# Altium footprint library DE-180824.PcbLib: 128 footprints (part 2 of 8)
Each footprint in its own frame and in the unit in brackets; x right, y up, seen from the top. Pads: shape width x height; smd on the part's side, far side on the other; paste and mask are expansions set on the pad; w line width, h text height; cw(c..) or ccw(c..) is an arc to the next point about the centre after c.
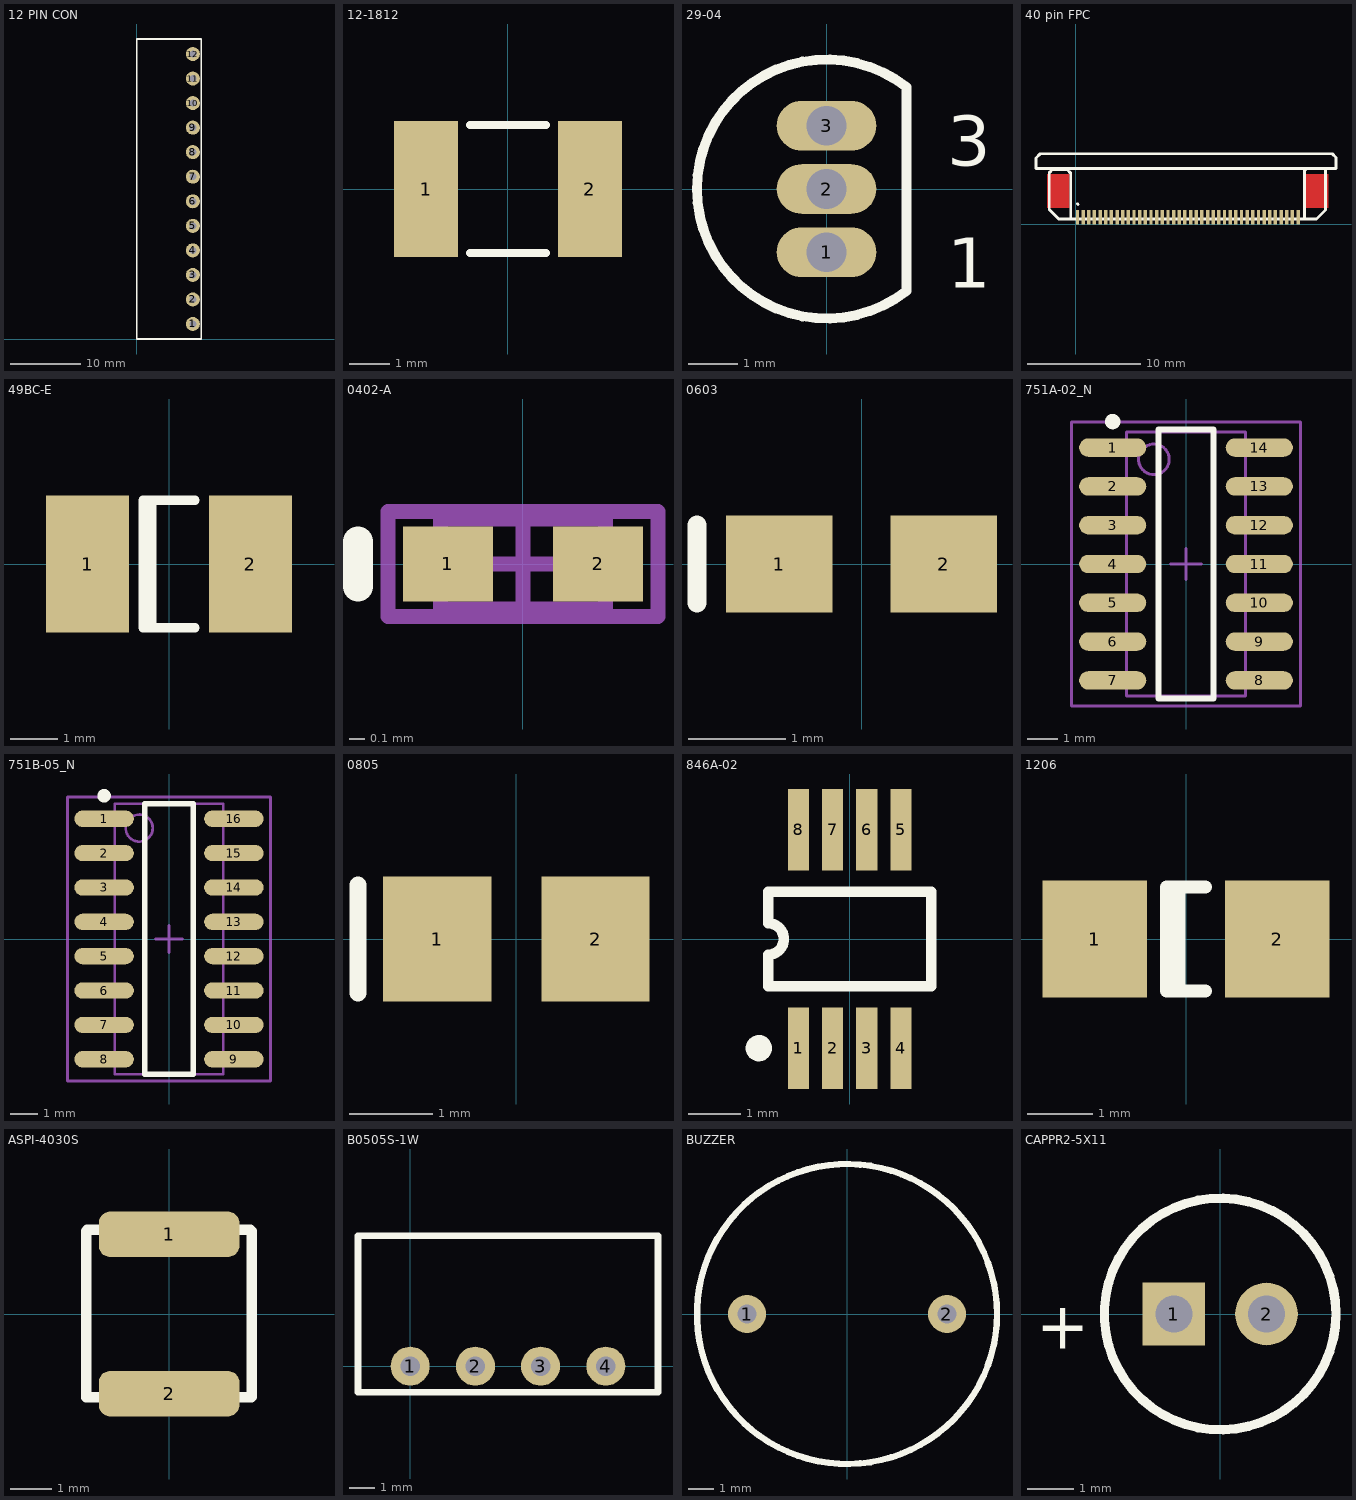
[diagram p1: the footprints below, top view; thin cyan lines are the x and y axes]

## 12 PIN CON [mm] "12 Pin Pluggable PCB Connector"
height 7.25
pads (12):
  round 2 hole 1: 1(8,2.15) 2(8,5.65) 3(8,9.15) 4(8,12.65) 5(8,16.15) 6(8,19.65) 7(8,23.15) 8(8,26.65) 9(8,30.15) 10(8,33.65) 11(8,37.15) 12(8,40.65)
Top Overlay:
  lines w0.254: 0,0 9.2,0 9.2,42.8 0,42.8 0,0
3D body: height 7.25, standoff 0, extent 0,0 9.271,42.799

## 12-1812 [mm] "Chip Resistor; Body 4.5 x 3.2 mm (LxW typ)"
height 0.7
pads (2):
  rect 1.6x3.4 smd: 1(-2.05,0) 2(2.05,0)
Top Overlay:
  lines w0.2: -0.95,-1.6 0.95,-1.6 ; -0.95,1.6 0.95,1.6

## 29-04 [mm] "TO, Flat Index; 3 In-Line, Axial Leads; Body Dia. 4.8mm; Leads 0.48 x 0.5 mm (max)"
height 5.33
pads (3):
  oval 2x1 hole 0.8: 1(0,-1.27) 2(0,0) 3(0,1.27)
Top Overlay:
  lines w0.2: 1.601,-2.049 cw(c0,0) 1.601,2.049 ; 1.6,-1.99 1.6,1.99
  text "3" at 2.421,0.467 h1
  text "1" at 2.421,-1.979 h1

## 40 pin FPC [mm]
pads (40):
  rect 0.3x1.25 smd: 1(0.16,0.635) 2(0.66,0.635) 3(1.16,0.635) 4(1.66,0.635) 5(2.16,0.635) 6(2.66,0.635) 7(3.16,0.635) 8(3.66,0.635) 9(4.16,0.635) 10(4.66,0.635) 11(5.16,0.635) 12(5.66,0.635) 13(6.16,0.635) 14(6.66,0.635) 15(7.16,0.635) 16(7.66,0.635) 17(8.16,0.635) 18(8.66,0.635) 19(9.16,0.635) 20(9.66,0.635) 21(10.16,0.635) 22(10.66,0.635) 23(11.16,0.635) 24(11.66,0.635) 25(12.16,0.635) 26(12.66,0.635) 27(13.16,0.635) 28(13.66,0.635) 29(14.16,0.635) 30(14.66,0.635) 31(15.16,0.635) 32(15.66,0.635) 33(16.16,0.635) 34(16.66,0.635) 35(17.16,0.635) 36(17.66,0.635) 37(18.16,0.635) 38(18.66,0.635) 39(19.16,0.635) 40(19.66,0.635)
Top Layer:
  rectangle: -2.54,1.45 -0.54,4.45
  rectangle: 20.352,1.45 22.352,4.45
Top Overlay:
  lines w0.254: -0.432,0.483 -0.432,4.521 -0.762,4.851 -2.057,4.851 -2.337,4.572 -2.337,1.321 -1.499,0.483 21.285,0.483 22.073,1.27 22.073,4.801 21.92,4.953 20.422,4.953 20.218,4.75 20.218,0.483 ; 0.152,1.829 0.152,1.803 0.203,1.753 ; -3.505,4.953 23.012,4.953 23.012,5.918 22.682,6.248 -3.124,6.248 -3.505,5.867 -3.505,4.953

## 49BC-E [mm] "Chip Capacitor; Body 3.81 x 2.54 mm (LxW typ)"
height 1.66
pads (2):
  rect 1.75x2.9 smd: 1(-1.725,0) 2(1.725,0)
Top Overlay:
  lines w0.2: -0.36,-1.35 -0.36,1.35 ; 0.55,-1.35 -0.55,-1.35 -0.55,1.35 0.55,1.35

## 0402-A [mm] "Chip Inductor, Body 1.0x0.5mm, IPC High Density"
height 0.55
pads (2):
  rect 0.6x0.5 smd: 1(-0.5,0) 2(0.5,0)
Top Overlay:
  lines w0.2: -1.1,-0.15 -1.1,0.15
Mechanical 13:
  lines w0.1: -0.55,-0.3 -0.55,0.3 0.55,0.3 0.55,-0.3 -0.55,-0.3
Mechanical 15:
  lines w0.1: -0.3,0 0.3,0 ; 0,-0.3 0,0.3 ; -0.9,-0.35 -0.9,0.35 0.9,0.35 0.9,-0.35 -0.9,-0.35
3D body: height 0.55, standoff 0, extent -0.55,-0.3 0.55,0.3

## 0603 [mm] "Chip Capacitor; Body 1.6 x 0.8 mm (LxW typ)"
height 0.87
pads (2):
  rect 1.1x1 smd: 1(-0.85,0) 2(0.85,0)
Top Overlay:
  lines w0.2: -1.7,-0.4 -1.7,0.4

## 751A-02_N [mm] "SOIC, 14-Leads, Body 8.7x3.9mm, Pitch 1.27mm, IPC Medium Density"
height 1.75
pads (14):
  oval 2.2x0.6 smd: 1(-2.4,3.81) 2(-2.4,2.54) 3(-2.4,1.27) 4(-2.4,0) 5(-2.4,-1.27) 6(-2.4,-2.54) 7(-2.4,-3.81) 8(2.4,-3.81) 9(2.4,-2.54) 10(2.4,-1.27) 11(2.4,0) 12(2.4,1.27) 13(2.4,2.54) 14(2.4,3.81)
Top Overlay:
  circle w0.25: c-2.4,4.66 r0.125
  lines w0.2: -0.9,-4.4 0.9,-4.4 0.9,4.4 -0.9,4.4 -0.9,-4.4
Mechanical 13:
  circle w0.1: c-1.05,3.425 r0.5
  lines w0.1: -1.95,-4.325 1.95,-4.325 1.95,4.325 -1.95,4.325 -1.95,-4.325
Mechanical 15:
  lines w0.1: -0.5,0 0.5,0 ; 0,-0.5 0,0.5 ; -3.75,-4.65 3.75,-4.65 3.75,4.65 -3.75,4.65 -3.75,-4.65
3D body: height 1.75, standoff 0, extent -1.95,-4.325 1.95,4.325

## 751B-05_N [mm] "SOIC, 16-Leads, Body 9.9x3.9mm, Pitch 1.27mm, IPC Medium Density"
height 1.75
pads (16):
  oval 2.2x0.6 smd: 1(-2.4,4.445) 2(-2.4,3.175) 3(-2.4,1.905) 4(-2.4,0.635) 5(-2.4,-0.635) 6(-2.4,-1.905) 7(-2.4,-3.175) 8(-2.4,-4.445) 9(2.4,-4.445) 10(2.4,-3.175) 11(2.4,-1.905) 12(2.4,-0.635) 13(2.4,0.635) 14(2.4,1.905) 15(2.4,3.175) 16(2.4,4.445)
Top Overlay:
  circle w0.25: c-2.4,5.295 r0.125
  lines w0.2: -0.9,-5 -0.9,5 0.9,5 0.9,-5 -0.9,-5
Mechanical 13:
  circle w0.1: c-1.1,4.1 r0.5
  lines w0.1: -2,-5 -2,5 2,5 2,-5 -2,-5
Mechanical 15:
  lines w0.1: -0.5,0 0.5,0 ; 0,-0.5 0,0.5 ; -3.75,-5.25 -3.75,5.25 3.75,5.25 3.75,-5.25 -3.75,-5.25
3D body: height 1.75, standoff 0, extent -2,-5 2,5

## 0805 [mm] "Chip Capacitor; Body 2.0 x 1.2 mm (LxW typ)"
height 1.3
pads (2):
  rect 1.3x1.5 smd: 1(-0.95,0) 2(0.95,0)
Top Overlay:
  lines w0.2: -1.9,-0.65 -1.9,0.65

## 846A-02 [mm] "Shrink Small Outline; 8 Leads; Body Width 3 mm; Pitch 0.65 mm"
height 1.1
pads (8):
  rect 0.4x1.55 smd: 1(-0.975,-2.075) 2(-0.325,-2.075) 3(0.325,-2.075) 4(0.975,-2.075) 5(0.975,2.075) 6(0.325,2.075) 7(-0.325,2.075) 8(-0.975,2.075)
Top Overlay:
  circle w0.25: c-1.725,-2.075 r0.125
  lines w0.2: -1.55,-0.9 -1.55,-0.3 ccw(c-1.55,0) -1.55,0.3 -1.55,0.9 1.55,0.9 1.55,-0.9 -1.55,-0.9

## 1206 [mm] "Chip Capacitor; Body 3.2 x 1.6 mm (LxW typ)"
height 1.5
pads (2):
  rect 1.6x1.8 smd: 1(-1.4,0) 2(1.4,0)
Top Overlay:
  lines w0.2: -0.11,-0.8 -0.11,0.8 ; 0.3,-0.8 -0.3,-0.8 -0.3,0.8 0.3,0.8

## ASPI-4030S [mm] "SMD Inductor ASPI-4030S"
height 3
pads (2):
  rrect50% 3.4x1.1 smd: 1(0,1.925) 2(0,-1.925)
Top Overlay:
  lines w0.254: -2.007,-2.007 1.981,-2.007 ; -2,-2 -2,2 ; -1.981,2.032 1.956,2.032 ; 2,-2 2,2
3D body: height 3, standoff 0, extent -2.108,-2.134 2.108,2.159

## B0505S-1W [mil] "Isolated DC DC converter"
height 393.7
pads (4):
  round 60 hole 30: 1(0,0) 2(100,0) 3(200,0) 4(300,0)
Top Overlay:
  lines w10: -80,-40 380,-40 380,200 -80,200 ; -80,-39.37 -80,196.85
3D body: height 393.7, standoff 19.68, extent -80,-40 380,200

## BUZZER [mil] "5Vdc PCB buzzer"
height 393.7
pads (2):
  round 60 hole 30: 1(-157.48,0) 2(157.48,0)
Top Overlay:
  circle w10: c0,0 r236.22
3D body: height 377.95, standoff 0, extent -236.21,-236.15 236.23,236.17

## CAPPR2-5X11 [mm] "Capacitor, Electrolytic, Radial; Body 5 x 11 mm (Dia.xH typ); Pin Spacing 2 mm (typ)"
height 12
pads (2):
  rect 1.35x1.35 hole 0.8: 1(-1,0)
  round 1.35 hole 0.8: 2(1,0)
Top Overlay:
  circle w0.2: c0,0 r2.5
  text "+" at -3.975,-0.75 h1